# Altium footprint library PcbLib1.PcbLib: 38 footprints (part 1 of 3)
Each footprint in its own frame and in the unit in brackets; x right, y up, seen from the top. Pads: shape width x height; smd on the part's side, far side on the other; paste and mask are expansions set on the pad; w line width, h text height; cw(c..) or ccw(c..) is an arc to the next point about the centre after c.
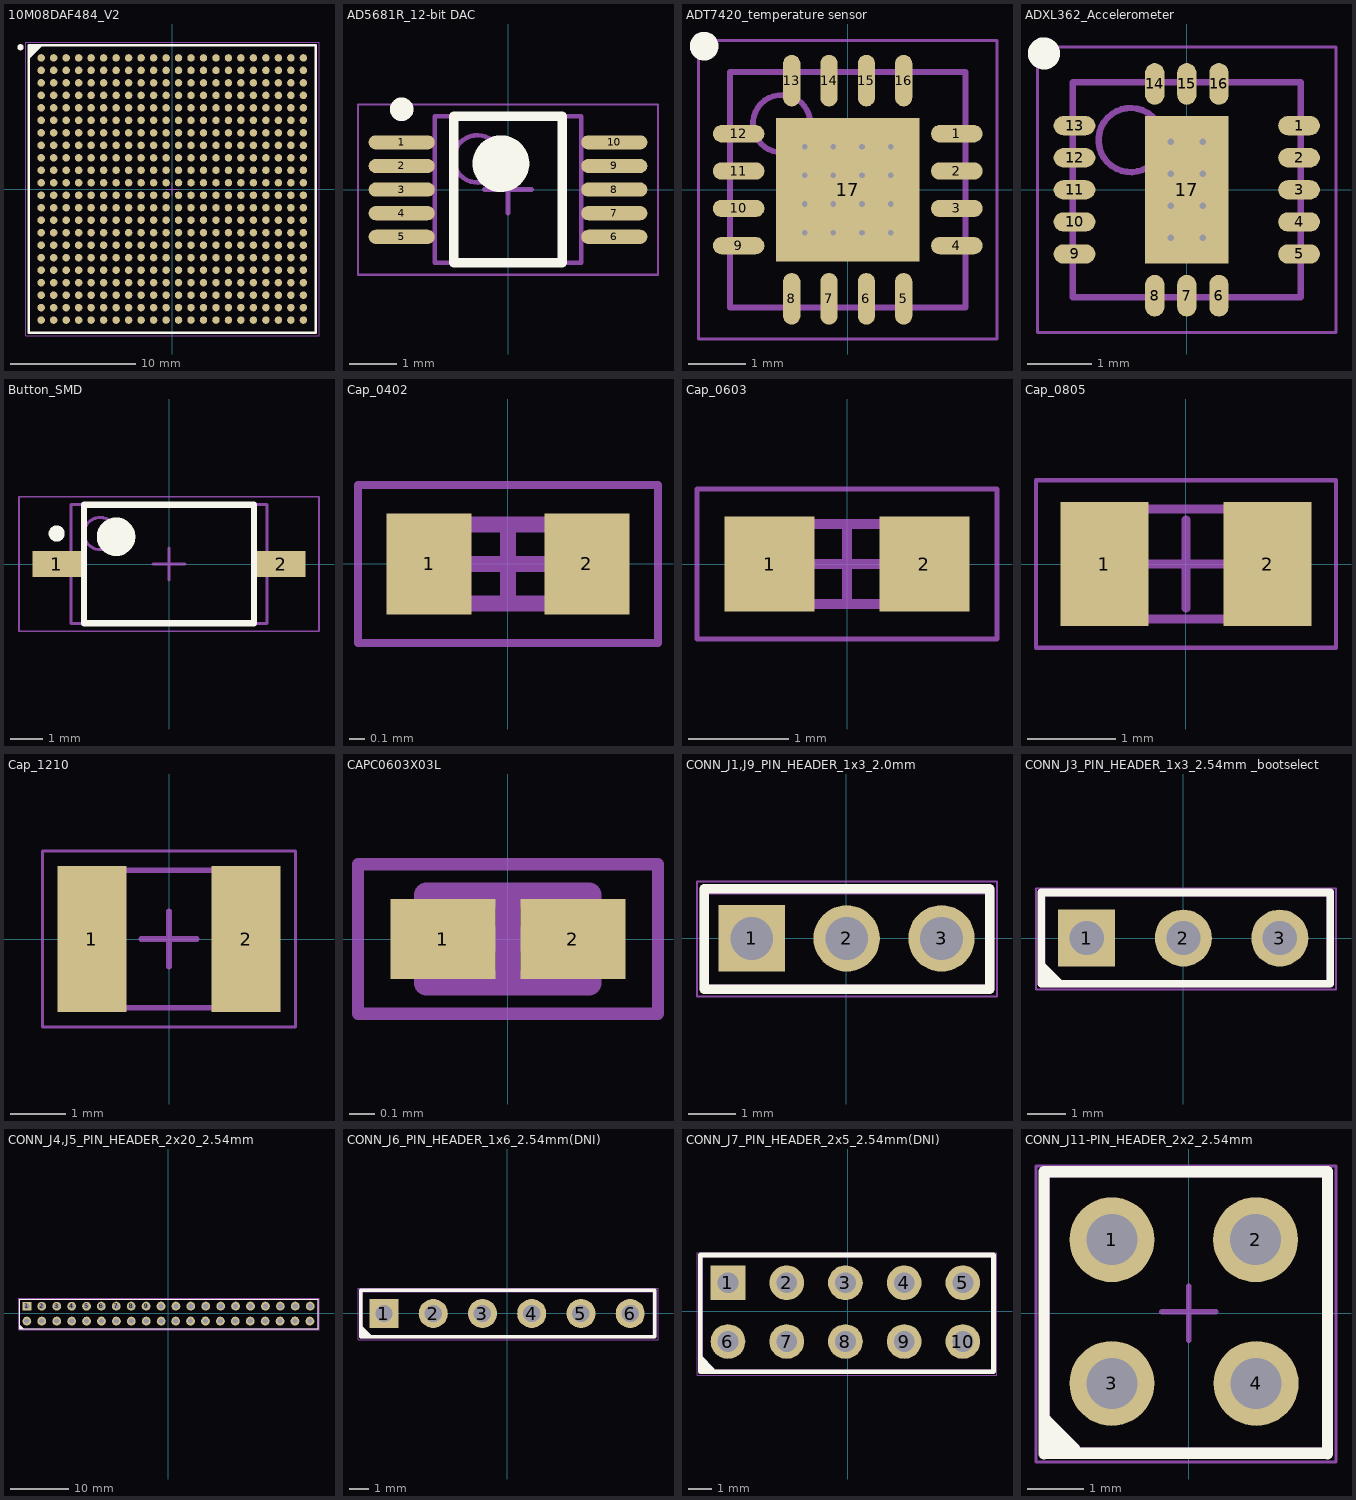
[diagram p0: the footprints below, top view; thin cyan lines are the x and y axes]

## 10M08DAF484_V2 [mm] "MAX 10 FPGFA"
height 2.4
pads (484):
  round 0.6 smd: A1(-10.5,10.5) A2(-9.5,10.5) A3(-8.5,10.5) A4(-7.5,10.5) A5(-6.5,10.5) A6(-5.5,10.5) A7(-4.5,10.5) A8(-3.5,10.5) A9(-2.5,10.5) A10(-1.5,10.5) A11(-0.5,10.5) A12(0.5,10.5) A13(1.5,10.5) A14(2.5,10.5) A15(3.5,10.5) A16(4.5,10.5) A17(5.5,10.5) A18(6.5,10.5) A19(7.5,10.5) A20(8.5,10.5) A21(9.5,10.5) A22(10.5,10.5) AA1(-10.5,-9.5) AA2(-9.5,-9.5) AA3(-8.5,-9.5) AA4(-7.5,-9.5) AA5(-6.5,-9.5) AA6(-5.5,-9.5) AA7(-4.5,-9.5) AA8(-3.5,-9.5) AA9(-2.5,-9.5) AA10(-1.5,-9.5) AA11(-0.5,-9.5) AA12(0.5,-9.5) AA13(1.5,-9.5) AA14(2.5,-9.5) AA15(3.5,-9.5) AA16(4.5,-9.5) AA17(5.5,-9.5) AA18(6.5,-9.5) AA19(7.5,-9.5) AA20(8.5,-9.5) AA21(9.5,-9.5) AA22(10.5,-9.5) AB1(-10.5,-10.5) AB2(-9.5,-10.5) AB3(-8.5,-10.5) AB4(-7.5,-10.5) AB5(-6.5,-10.5) AB6(-5.5,-10.5) AB7(-4.5,-10.5) AB8(-3.5,-10.5) AB9(-2.5,-10.5) AB10(-1.5,-10.5) AB11(-0.5,-10.5) AB12(0.5,-10.5) AB13(1.5,-10.5) AB14(2.5,-10.5) AB15(3.5,-10.5) AB16(4.5,-10.5) AB17(5.5,-10.5) AB18(6.5,-10.5) AB19(7.5,-10.5) AB20(8.5,-10.5) AB21(9.5,-10.5) AB22(10.5,-10.5) B1(-10.5,9.5) B2(-9.5,9.5) B3(-8.5,9.5) B4(-7.5,9.5) B5(-6.5,9.5) B6(-5.5,9.5) B7(-4.5,9.5) B8(-3.5,9.5) B9(-2.5,9.5) B10(-1.5,9.5) B11(-0.5,9.5) B12(0.5,9.5) B13(1.5,9.5) B14(2.5,9.5) B15(3.5,9.5) B16(4.5,9.5) B17(5.5,9.5) B18(6.5,9.5) B19(7.5,9.5) B20(8.5,9.5) B21(9.5,9.5) B22(10.5,9.5) C1(-10.5,8.5) C2(-9.5,8.5) C3(-8.5,8.5) C4(-7.5,8.5) C5(-6.5,8.5) C6(-5.5,8.5) C7(-4.5,8.5) C8(-3.5,8.5) C9(-2.5,8.5) C10(-1.5,8.5) C11(-0.5,8.5) C12(0.5,8.5) C13(1.5,8.5) C14(2.5,8.5) C15(3.5,8.5) C16(4.5,8.5) C17(5.5,8.5) C18(6.5,8.5) C19(7.5,8.5) C20(8.5,8.5) C21(9.5,8.5) C22(10.5,8.5) D1(-10.5,7.5) D2(-9.5,7.5) D3(-8.5,7.5) D4(-7.5,7.5) D5(-6.5,7.5) D6(-5.5,7.5) D7(-4.5,7.5) D8(-3.5,7.5) D9(-2.5,7.5) D10(-1.5,7.5) D11(-0.5,7.5) D12(0.5,7.5) D13(1.5,7.5) D14(2.5,7.5) D15(3.5,7.5) D16(4.5,7.5) D17(5.5,7.5) D18(6.5,7.5) D19(7.5,7.5) D20(8.5,7.5) D21(9.5,7.5) D22(10.5,7.5) E1(-10.5,6.5) E2(-9.5,6.5) E3(-8.5,6.5) E4(-7.5,6.5) E5(-6.5,6.5) E6(-5.5,6.5) E7(-4.5,6.5) E8(-3.5,6.5) E9(-2.5,6.5) E10(-1.5,6.5) E11(-0.5,6.5) E12(0.5,6.5) E13(1.5,6.5) E14(2.5,6.5) E15(3.5,6.5) E16(4.5,6.5) E17(5.5,6.5) E18(6.5,6.5) E19(7.5,6.5) E20(8.5,6.5) E21(9.5,6.5) E22(10.5,6.5) F1(-10.5,5.5) F2(-9.5,5.5) F3(-8.5,5.5) F4(-7.5,5.5) F5(-6.5,5.5) F6(-5.5,5.5) F7(-4.5,5.5) F8(-3.5,5.5) F9(-2.5,5.5) F10(-1.5,5.5) F11(-0.5,5.5) F12(0.5,5.5) F13(1.5,5.5) F14(2.5,5.5) F15(3.5,5.5) F16(4.5,5.5) F17(5.5,5.5) F18(6.5,5.5) F19(7.5,5.5) F20(8.5,5.5) F21(9.5,5.5) F22(10.5,5.5) G1(-10.5,4.5) G2(-9.5,4.5) G3(-8.5,4.5) G4(-7.5,4.5) G5(-6.5,4.5) G6(-5.5,4.5) G7(-4.5,4.5) G8(-3.5,4.5) G9(-2.5,4.5) G10(-1.5,4.5) G11(-0.5,4.5) G12(0.5,4.5) G13(1.5,4.5) G14(2.5,4.5) G15(3.5,4.5) G16(4.5,4.5) G17(5.5,4.5) G18(6.5,4.5) G19(7.5,4.5) G20(8.5,4.5) G21(9.5,4.5) G22(10.5,4.5) H1(-10.5,3.5) H2(-9.5,3.5) H3(-8.5,3.5) H4(-7.5,3.5) H5(-6.5,3.5) H6(-5.5,3.5) H7(-4.5,3.5) H8(-3.5,3.5) H9(-2.5,3.5) H10(-1.5,3.5) H11(-0.5,3.5) H12(0.5,3.5) H13(1.5,3.5) H14(2.5,3.5) H15(3.5,3.5) H16(4.5,3.5) H17(5.5,3.5) H18(6.5,3.5) H19(7.5,3.5) H20(8.5,3.5) H21(9.5,3.5) H22(10.5,3.5) J1(-10.5,2.5) J2(-9.5,2.5) J3(-8.5,2.5) J4(-7.5,2.5) J5(-6.5,2.5) J6(-5.5,2.5) J7(-4.5,2.5) J8(-3.5,2.5) J9(-2.5,2.5) J10(-1.5,2.5) J11(-0.5,2.5) J12(0.5,2.5) J13(1.5,2.5) J14(2.5,2.5) J15(3.5,2.5) J16(4.5,2.5) J17(5.5,2.5) J18(6.5,2.5) J19(7.5,2.5) J20(8.5,2.5) J21(9.5,2.5) J22(10.5,2.5) K1(-10.5,1.5) K2(-9.5,1.5) K3(-8.5,1.5) K4(-7.5,1.5) K5(-6.5,1.5) K6(-5.5,1.5) K7(-4.5,1.5) K8(-3.5,1.5) K9(-2.5,1.5) K10(-1.5,1.5) K11(-0.5,1.5) K12(0.5,1.5) K13(1.5,1.5) K14(2.5,1.5) K15(3.5,1.5) K16(4.5,1.5) K17(5.5,1.5) K18(6.5,1.5) K19(7.5,1.5) K20(8.5,1.5) K21(9.5,1.5) K22(10.5,1.5) L1(-10.5,0.5) L2(-9.5,0.5) L3(-8.5,0.5) L4(-7.5,0.5) L5(-6.5,0.5) L6(-5.5,0.5) L7(-4.5,0.5) L8(-3.5,0.5) L9(-2.5,0.5) L10(-1.5,0.5) L11(-0.5,0.5) L12(0.5,0.5) L13(1.5,0.5) L14(2.5,0.5) L15(3.5,0.5) L16(4.5,0.5) L17(5.5,0.5) L18(6.5,0.5) L19(7.5,0.5) L20(8.5,0.5) L21(9.5,0.5) L22(10.5,0.5) M1(-10.5,-0.5) M2(-9.5,-0.5) M3(-8.5,-0.5) M4(-7.5,-0.5) M5(-6.5,-0.5) M6(-5.5,-0.5) M7(-4.5,-0.5) M8(-3.5,-0.5) M9(-2.5,-0.5) M10(-1.5,-0.5) M11(-0.5,-0.5) M12(0.5,-0.5) M13(1.5,-0.5) M14(2.5,-0.5) M15(3.5,-0.5) M16(4.5,-0.5) M17(5.5,-0.5) M18(6.5,-0.5) M19(7.5,-0.5) M20(8.5,-0.5) M21(9.5,-0.5) M22(10.5,-0.5) N1(-10.5,-1.5) N2(-9.5,-1.5) N3(-8.5,-1.5) N4(-7.5,-1.5) N5(-6.5,-1.5) N6(-5.5,-1.5) N7(-4.5,-1.5) N8(-3.5,-1.5) N9(-2.5,-1.5) N10(-1.5,-1.5) N11(-0.5,-1.5) N12(0.5,-1.5) N13(1.5,-1.5) N14(2.5,-1.5) N15(3.5,-1.5) N16(4.5,-1.5) N17(5.5,-1.5) N18(6.5,-1.5) N19(7.5,-1.5) N20(8.5,-1.5) N21(9.5,-1.5) N22(10.5,-1.5) P1(-10.5,-2.5) P2(-9.5,-2.5) P3(-8.5,-2.5) P4(-7.5,-2.5) P5(-6.5,-2.5) P6(-5.5,-2.5) P7(-4.5,-2.5) P8(-3.5,-2.5) P9(-2.5,-2.5) P10(-1.5,-2.5) P11(-0.5,-2.5) P12(0.5,-2.5) P13(1.5,-2.5) P14(2.5,-2.5) P15(3.5,-2.5) P16(4.5,-2.5) P17(5.5,-2.5) P18(6.5,-2.5) P19(7.5,-2.5) P20(8.5,-2.5) P21(9.5,-2.5) P22(10.5,-2.5) R1(-10.5,-3.5) R2(-9.5,-3.5) R3(-8.5,-3.5) R4(-7.5,-3.5) R5(-6.5,-3.5) R6(-5.5,-3.5) R7(-4.5,-3.5) R8(-3.5,-3.5) R9(-2.5,-3.5) R10(-1.5,-3.5) R11(-0.5,-3.5) R12(0.5,-3.5) R13(1.5,-3.5) R14(2.5,-3.5) R15(3.5,-3.5) R16(4.5,-3.5) R17(5.5,-3.5) R18(6.5,-3.5) R19(7.5,-3.5) R20(8.5,-3.5) R21(9.5,-3.5) R22(10.5,-3.5) T1(-10.5,-4.5) T2(-9.5,-4.5) T3(-8.5,-4.5) T4(-7.5,-4.5) T5(-6.5,-4.5) T6(-5.5,-4.5) T7(-4.5,-4.5) T8(-3.5,-4.5) T9(-2.5,-4.5) T10(-1.5,-4.5) T11(-0.5,-4.5) T12(0.5,-4.5) T13(1.5,-4.5) T14(2.5,-4.5) T15(3.5,-4.5) T16(4.5,-4.5) T17(5.5,-4.5) T18(6.5,-4.5) T19(7.5,-4.5) T20(8.5,-4.5) T21(9.5,-4.5) T22(10.5,-4.5) U1(-10.5,-5.5) U2(-9.5,-5.5) U3(-8.5,-5.5) U4(-7.5,-5.5) U5(-6.5,-5.5) U6(-5.5,-5.5) U7(-4.5,-5.5) U8(-3.5,-5.5) U9(-2.5,-5.5) U10(-1.5,-5.5) U11(-0.5,-5.5) U12(0.5,-5.5) U13(1.5,-5.5) U14(2.5,-5.5) U15(3.5,-5.5) U16(4.5,-5.5) U17(5.5,-5.5) U18(6.5,-5.5) U19(7.5,-5.5) U20(8.5,-5.5) U21(9.5,-5.5) U22(10.5,-5.5) V1(-10.5,-6.5) V2(-9.5,-6.5) V3(-8.5,-6.5) V4(-7.5,-6.5) V5(-6.5,-6.5) V6(-5.5,-6.5) V7(-4.5,-6.5) V8(-3.5,-6.5) V9(-2.5,-6.5) V10(-1.5,-6.5) V11(-0.5,-6.5) V12(0.5,-6.5) V13(1.5,-6.5) V14(2.5,-6.5) V15(3.5,-6.5) V16(4.5,-6.5) V17(5.5,-6.5) V18(6.5,-6.5) V19(7.5,-6.5) V20(8.5,-6.5) V21(9.5,-6.5) V22(10.5,-6.5) W1(-10.5,-7.5) W2(-9.5,-7.5) W3(-8.5,-7.5) W4(-7.5,-7.5) W5(-6.5,-7.5) W6(-5.5,-7.5) W7(-4.5,-7.5) W8(-3.5,-7.5) W9(-2.5,-7.5) W10(-1.5,-7.5) W11(-0.5,-7.5) W12(0.5,-7.5) W13(1.5,-7.5) W14(2.5,-7.5) W15(3.5,-7.5) W16(4.5,-7.5) W17(5.5,-7.5) W18(6.5,-7.5) W19(7.5,-7.5) W20(8.5,-7.5) W21(9.5,-7.5) W22(10.5,-7.5) Y1(-10.5,-8.5) Y2(-9.5,-8.5) Y3(-8.5,-8.5) Y4(-7.5,-8.5) Y5(-6.5,-8.5) Y6(-5.5,-8.5) Y7(-4.5,-8.5) Y8(-3.5,-8.5) Y9(-2.5,-8.5) Y10(-1.5,-8.5) Y11(-0.5,-8.5) Y12(0.5,-8.5) Y13(1.5,-8.5) Y14(2.5,-8.5) Y15(3.5,-8.5) Y16(4.5,-8.5) Y17(5.5,-8.5) Y18(6.5,-8.5) Y19(7.5,-8.5) Y20(8.5,-8.5) Y21(9.5,-8.5) Y22(10.5,-8.5)
Top Overlay:
  circle w0.25: c-12.15,11.35 r0.125
  region: -10.5,11.5 -11.5,10.5 -11.5,11.5
  lines w0.2: -11.5,10.5 -10.5,11.5 ; -11.5,-11.5 11.5,-11.5 11.5,11.5 -11.5,11.5 -11.5,-11.5
Mechanical 13:
  lines w0.1: -11.5,-11.5 11.5,-11.5 11.5,11.5 -11.5,11.5 -11.5,-11.5
Mechanical 15:
  lines w0.05: -11.75,-11.75 11.75,-11.75 11.75,11.75 -11.75,11.75 -11.75,-11.75
  lines w0.1: -0.5,0 0.5,0 ; 0,-0.5 0,0.5
3D body: height 2.4, standoff 0.6, extent -11.5,-11.5 11.5,11.5

## AD5681R_12-bit DAC [mm]
height 1.1
pads (10):
  oval 1.4x0.3 smd: 1(-2.25,1) 2(-2.25,0.5) 3(-2.25,0) 4(-2.25,-0.5) 5(-2.25,-1) 6(2.25,-1) 7(2.25,-0.5) 8(2.25,0) 9(2.25,0.5) 10(2.25,1)
Top Overlay:
  circle w0.6: c-0.15,0.55 r0.3
  circle w0.25: c-2.25,1.7 r0.125
  lines w0.2: -1.15,-1.55 1.15,-1.55 1.15,1.55 -1.15,1.55 -1.15,-1.55
Mechanical 13:
  circle w0.1: c-0.65,0.65 r0.5
  lines w0.1: -1.55,-1.55 1.55,-1.55 1.55,1.55 -1.55,1.55 -1.55,-1.55
Mechanical 15:
  lines w0.05: -3.175,-1.8 3.175,-1.8 3.175,1.8 -3.175,1.8 -3.175,-1.8
  lines w0.1: -0.5,0 0.5,0 ; 0,-0.5 0,0.5
3D body: height 1.1, standoff 0.15, extent -1.55,-1.55 1.55,1.55

## ADT7420_temperature sensor [mm]
height 0.8
pads (17):
  oval 0.9x0.3 smd: 1(1.9,0.975) 2(1.9,0.325) 3(1.9,-0.325) 4(1.9,-0.975) 9(-1.9,-0.975) 10(-1.9,-0.325) 11(-1.9,0.325) 12(-1.9,0.975)
  oval 0.3x0.9 smd: 5(0.975,-1.9) 6(0.325,-1.9) 7(-0.325,-1.9) 8(-0.975,-1.9) 13(-0.975,1.9) 14(-0.325,1.9) 15(0.325,1.9) 16(0.975,1.9)
  rect 2.5x2.5 smd: 17(0,0)
via -0.25,0.25 diameter 0.25 hole 0.1
via -0.75,0.25 diameter 0.25 hole 0.1
via -0.75,0.75 diameter 0.25 hole 0.1
via -0.25,0.75 diameter 0.25 hole 0.1
via 0.25,0.25 diameter 0.25 hole 0.1
via 0.25,0.75 diameter 0.25 hole 0.1
via 0.75,0.75 diameter 0.25 hole 0.1
via 0.75,0.25 diameter 0.25 hole 0.1
via 0.25,-0.25 diameter 0.25 hole 0.1
via 0.75,-0.25 diameter 0.25 hole 0.1
via 0.75,-0.75 diameter 0.25 hole 0.1
via 0.25,-0.75 diameter 0.25 hole 0.1
via -0.75,-0.25 diameter 0.25 hole 0.1
via -0.75,-0.75 diameter 0.25 hole 0.1
via -0.25,-0.75 diameter 0.25 hole 0.1
via -0.25,-0.25 diameter 0.25 hole 0.1
Top Overlay:
  circle w0.25: c-2.5,2.5 r0.125
Mechanical 13:
  circle w0.1: c-1.15,1.15 r0.5
  lines w0.1: -2.05,-2.05 -2.05,2.05 2.05,2.05 2.05,-2.05 -2.05,-2.05
Mechanical 15:
  lines w0.05: -2.6,-2.6 -2.6,2.6 2.6,2.6 2.6,-2.6 -2.6,-2.6
  lines w0.1: -0.5,0 0.5,0 ; 0,-0.5 0,0.5
3D body: height 0.8, standoff 0.05, extent -2.05,-2.05 2.05,2.05

## ADXL362_Accelerometer [mm]
height 1.14
pads (17):
  oval 0.65x0.3 smd: 1(1.75,1) 2(1.75,0.5) 3(1.75,0) 4(1.75,-0.5) 5(1.75,-1) 9(-1.75,-1) 10(-1.75,-0.5) 11(-1.75,0) 12(-1.75,0.5) 13(-1.75,1)
  oval 0.3x0.65 smd: 6(0.5,-1.65) 7(0,-1.65) 8(-0.5,-1.65) 14(-0.5,1.65) 15(0,1.65) 16(0.5,1.65)
  rect 1.3x2.3 smd: 17(0,0)
via 0.25,-0.25 diameter 0.25 hole 0.1
via 0.25,-0.75 diameter 0.25 hole 0.1
via -0.25,-0.25 diameter 0.25 hole 0.1
via -0.25,-0.75 diameter 0.25 hole 0.1
via 0.25,0.25 diameter 0.25 hole 0.1
via 0.25,0.75 diameter 0.25 hole 0.1
via -0.25,0.25 diameter 0.25 hole 0.1
via -0.25,0.75 diameter 0.25 hole 0.1
Top Overlay:
  circle w0.25: c-2.225,2.125 r0.125
Mechanical 13:
  circle w0.1: c-0.875,0.775 r0.5
  lines w0.1: -1.775,-1.675 -1.775,1.675 1.775,1.675 1.775,-1.675 -1.775,-1.675
Mechanical 15:
  lines w0.05: -2.325,-2.225 -2.325,2.225 2.325,2.225 2.325,-2.225 -2.325,-2.225
  lines w0.1: -0.5,0 0.5,0 ; 0,-0.5 0,0.5
3D body: height 1.14, standoff 0.05, extent -1.775,-1.675 1.775,1.675

## Button_SMD [mm] "Micro SMD PushButton 3.7x6.1x2.5mm 2P"
height 2.5
pads (2):
  rect 1.5x0.8 smd: 1(-3.5,0) 2(3.5,0)
Top Overlay:
  circle w0.25: c-3.5,0.95 r0.125
  circle w0.6: c-1.65,0.85 r0.3
  lines w0.2: -2.65,-1.85 -2.65,1.85 2.65,1.85 2.65,-1.85 -2.65,-1.85
Mechanical 13:
  circle w0.1: c-2.15,0.95 r0.5
  lines w0.1: -3.05,-1.85 -3.05,1.85 3.05,1.85 3.05,-1.85 -3.05,-1.85
Mechanical 15:
  lines w0.05: -4.675,-2.1 -4.675,2.1 4.675,2.1 4.675,-2.1 -4.675,-2.1
  lines w0.1: -0.5,0 0.5,0 ; 0,-0.5 0,0.5
3D body: height 2.5, standoff 0.05, extent -3.05,-1.85 3.05,1.85

## Cap_0402 [mm]
height 0.55
pads (2):
  rect 0.54x0.64 smd: 1(-0.5,0) 2(0.5,0)
Mechanical 13:
  lines w0.1: -0.5,-0.25 -0.5,0.25 0.5,0.25 0.5,-0.25 -0.5,-0.25
Mechanical 15:
  lines w0.05: -0.95,-0.5 -0.95,0.5 0.95,0.5 0.95,-0.5 -0.95,-0.5
  lines w0.1: -0.25,0 0.25,0 ; 0,-0.25 0,0.25
3D body: height 0.55, standoff 0, extent -0.3,-0.25 0.3,0.25
3D body: height 0.55, standoff 0, extent -0.5,-0.25 -0.3,0.25
3D body: height 0.55, standoff 0, extent 0.3,-0.25 0.5,0.25

## Cap_0603 [mm]
height 0.9
pads (2):
  rect 0.9x0.95 smd: 1(-0.775,0) 2(0.775,0)
Mechanical 13:
  lines w0.1: -0.8,-0.4 -0.8,0.4 0.8,0.4 0.8,-0.4 -0.8,-0.4
Mechanical 15:
  lines w0.05: -1.5,-0.75 -1.5,0.75 1.5,0.75 1.5,-0.75 -1.5,-0.75
  lines w0.1: -0.4,0 0.4,0 ; 0,-0.4 0,0.4
3D body: height 0.9, standoff 0, extent -0.4,-0.4 0.4,0.4
3D body: height 0.9, standoff 0, extent -0.8,-0.4 -0.4,0.4
3D body: height 0.9, standoff 0, extent 0.4,-0.4 0.8,0.4

## Cap_0805 [mm]
height 1.3
pads (2):
  rect 1x1.4 smd: 1(-0.925,0) 2(0.925,0)
Mechanical 13:
  lines w0.1: -1,-0.625 -1,0.625 1,0.625 1,-0.625 -1,-0.625
Mechanical 15:
  lines w0.05: -1.7,-0.95 -1.7,0.95 1.7,0.95 1.7,-0.95 -1.7,-0.95
  lines w0.1: -0.5,0 0.5,0 ; 0,-0.5 0,0.5
3D body: height 1.3, standoff 0, extent -0.5,-0.625 0.5,0.625
3D body: height 1.3, standoff 0, extent -1,-0.625 -0.5,0.625
3D body: height 1.3, standoff 0, extent 0.5,-0.625 1,0.625

## Cap_1210 [mm]
height 1.7
pads (2):
  rect 1.25x2.65 smd: 1(-1.4,0) 2(1.4,0)
Mechanical 13:
  lines w0.1: -1.6,-1.25 1.6,-1.25 1.6,1.25 -1.6,1.25 -1.6,-1.25
Mechanical 15:
  lines w0.05: -2.3,-1.6 2.3,-1.6 2.3,1.6 -2.3,1.6 -2.3,-1.6
  lines w0.1: -0.5,0 0.5,0 ; 0,-0.5 0,0.5
3D body: height 1.7, standoff 0, extent 0.85,-1.25 1.6,1.25
3D body: height 1.7, standoff 0, extent -1.6,-1.25 -0.85,1.25
3D body: height 1.7, standoff 0, extent -0.85,-1.25 0.85,1.25

## CAPC0603X03L [mm] "Chip Capacitor, 2-Leads, Body 0,60x0,30mm, IPC High Density"
height 0.35
pads (2):
  rect 0.42x0.32 smd: 1(-0.26,0) 2(0.26,0)
Mechanical 13:
  lines w0.1: -0.325,-0.175 0.325,-0.175 0.325,0.175 -0.325,0.175 -0.325,-0.175
Mechanical 15:
  lines w0.05: -0.6,-0.3 0.6,-0.3 0.6,0.3 -0.6,0.3 -0.6,-0.3
  lines w0.1: -0.175,0 0.175,0 ; 0,-0.175 0,0.175
3D body "CAPC0603X03L.step": height 0.35, standoff 0, extent -0.325,-0.175 0.325,0.175

## CONN_J1,J9_PIN_HEADER_1x3_2.0mm [mm] "PIN_HEADER_1x3_2.0mm"
height 8.54
pads (3):
  rect 1.4x1.4 hole 0.9 unplated: 1(-1.995,0)
  round 1.4 hole 0.9: 2(0.005,0) 3(2.005,0)
Top Overlay:
  lines w0.2: -3,-1.075 -3,1.05 3.025,1.05 3.025,-1.075 -3,-1.075
Mechanical 13:
  lines w0.2: -3,1.025 -3,-1.075 ; 0.9,-1.075 -3,-1.075 ; -3,-1.075 -3,1.05 -2.975,1.025 3,1.025 3.025,1 3.025,-1.075 -3,-1.075
Mechanical 15:
  lines w0.05: -3.15,-1.225 -3.15,1.2 3.175,1.2 3.175,-1.225 -3.15,-1.225
3D body: height 8.54, standoff 0, extent -3.001,-1.076 3.026,1.051

## CONN_J3_PIN_HEADER_1x3_2.54mm _bootselect [mm] "PIN_HEADER_1x3_2.54mm"
height 8.54
pads (3):
  rect 1.5x1.5 hole 0.9 unplated: 1(-2.54,0)
  round 1.5 hole 0.9: 2(0.005,0) 3(2.545,0)
Top Overlay:
  region: -3.735,-0.7 -3.235,-1.2 -3.735,-1.2
  lines w0.2: -3.735,-0.7 -3.235,-1.2 ; -3.735,-1.2 -3.735,1.2 3.875,1.2 3.875,-1.2 -3.735,-1.2
Mechanical 13:
  lines w0.2: -3.725,-1.2 3.825,-1.2 3.875,-1.15 3.875,1.2 -3.7,1.2 -3.725,1.175 -3.725,-1.2
Mechanical 15:
  lines w0.05: -3.875,-1.35 -3.875,1.3 4.025,1.3 4.025,-1.35 -3.875,-1.35
3D body: height 8.54, standoff 0, extent -3.726,-1.201 3.876,1.201

## CONN_J4,J5_PIN_HEADER_2x20_2.54mm [mm] "PIN_HEADER_2x20_2.54mm"
height 8.54
pads (40):
  rect 1.5x1.5 hole 0.9 unplated: 1(-24.11,1.24)
  round 1.5 hole 0.9: 2(-21.57,1.24) 3(-19.03,1.24) 4(-16.49,1.24) 5(-13.95,1.24) 6(-11.435,1.25) 7(-8.895,1.25) 8(-6.355,1.25) 9(-3.815,1.25) 10(-1.275,1.25) 11(1.265,1.25) 12(3.805,1.25) 13(6.345,1.25) 14(8.885,1.25) 15(11.425,1.25) 16(13.965,1.25) 17(16.505,1.25) 18(19.045,1.25) 19(21.585,1.25) 20(24.125,1.25) 21(-24.11,-1.3) 22(-21.57,-1.3) 23(-19.03,-1.3) 24(-16.49,-1.3) 25(-13.95,-1.3) 26(-11.41,-1.3) 27(-8.87,-1.3) 28(-6.33,-1.3) 29(-3.79,-1.3) 30(-1.25,-1.3) 31(1.215,-1.3) 32(3.755,-1.3) 33(6.295,-1.3) 34(8.835,-1.3) 35(11.375,-1.3) 36(13.915,-1.3) 37(16.455,-1.3) 38(18.995,-1.3) 39(21.535,-1.3) 40(24.075,-1.3)
Top Overlay:
  region: -25.275,-2.035 -24.775,-2.535 -25.275,-2.535
  lines w0.2: -25.285,-2.01 -24.785,-2.51 ; -25.31,-2.61 -25.31,2.44 25.475,2.44 25.475,-2.61 -25.31,-2.61
Mechanical 13:
  lines w0.2: 25.475,-2.625 25.475,2.45 25.45,2.425 -25.3,2.425 -25.3,-2.6 -25.275,-2.625 25.475,-2.625 ; 25.475,-2.625 25.475,-2.625
Mechanical 15:
  lines w0.05: -25.45,-2.76 -25.45,2.575 25.625,2.575 25.625,-2.76 -25.45,-2.76
3D body: height 8.54, standoff 0, extent -25.301,-2.626 25.476,2.451

## CONN_J6_PIN_HEADER_1x6_2.54mm(DNI) [mm] "PIN_HEADER_1x6_2.54mm(DNI)"
height 8.54
pads (6):
  rect 1.5x1.5 hole 0.9 unplated: 1(-6.36,-0.025)
  round 1.5 hole 0.9: 2(-3.82,-0.025) 3(-1.28,-0.025) 4(1.26,-0.025) 5(3.8,-0.025) 6(6.34,-0.025)
Top Overlay:
  region: -7.56,-0.725 -7.06,-1.225 -7.56,-1.225
  lines w0.2: -7.56,-0.725 -7.06,-1.225 ; -7.56,-1.225 -7.56,1.175 7.61,1.175 7.61,-1.225 -7.56,-1.225
Mechanical 13:
  lines w0.2: -7.55,-1.2 -7.55,1.15 7.6,1.15 7.6,-1.2 7.575,-1.225 -7.525,-1.225 -7.55,-1.2
Mechanical 15:
  lines w0.05: -7.7,-1.375 -7.7,1.275 7.775,1.275 7.775,-1.375 -7.7,-1.375
3D body: height 8.54, standoff 0, extent -7.551,-1.226 7.601,1.151

## CONN_J7_PIN_HEADER_2x5_2.54mm(DNI) [mm] "PIN_HEADER_2x5_2.54mm(DNI)"
height 8.54
pads (10):
  rect 1.5x1.5 hole 0.9 unplated: 1(-5.18,1.24)
  round 1.5 hole 0.9: 2(-2.64,1.24) 3(-0.1,1.24) 4(2.44,1.24) 5(4.98,1.24) 6(-5.18,-1.3) 7(-2.64,-1.3) 8(-0.1,-1.3) 9(2.44,-1.3) 10(4.98,-1.3)
Top Overlay:
  region: -6.345,-2.035 -5.845,-2.535 -6.345,-2.535
  lines w0.2: -6.355,-2.01 -5.855,-2.51 ; -6.38,-2.61 -6.38,2.44 6.305,2.44 6.305,-2.61 -6.38,-2.61
Mechanical 13:
  lines w0.2: -6.35,-2.575 -6.325,-2.6 6.3,-2.6 6.3,2.45 6.275,2.425 -6.35,2.425 -6.35,-2.575
Mechanical 15:
  lines w0.05: -6.52,-2.76 -6.52,2.54 6.455,2.54 6.455,-2.76 -6.52,-2.76
3D body: height 8.54, standoff 0, extent -6.351,-2.601 6.301,2.451

## CONN_J11-PIN_HEADER_2x2_2.54mm [mm] "Analog input (AIN1 and AIN2)"
height 8.54
pads (4):
  round 1.5 hole 0.9 unplated: 1(-1.36,1.3)
  round 1.5 hole 0.9: 2(1.18,1.3) 3(-1.36,-1.24) 4(1.19,-1.24)
Top Overlay:
  region: -2.55,-1.95 -2.05,-2.45 -2.55,-2.45
  lines w0.2: -2.56,-2.48 -2.56,2.5 2.45,2.5 2.45,-2.48 ; -2.56,-2.475 2.45,-2.475 ; -2.51,-1.9 -2.01,-2.4
Mechanical 13:
  lines w0.2: -2.55,-2.45 -2.525,-2.475 2.425,-2.475 2.45,-2.45 2.45,2.5 -2.55,2.5 -2.55,-2.45
Mechanical 15:
  lines w0.05: -2.7,-2.625 2.6,-2.625 2.6,2.6 -2.7,2.6 -2.7,-2.625
  lines w0.1: -0.475,0.025 0.475,0.025 ; 0,-0.475 0,0.475
3D body: height 8.54, standoff 0, extent -2.65,-2.575 2.55,2.6